# Altium schematic symbol library VEGG_Schlib.SchLib: 99 symbols
Pins are listed as number, name and electrical type; pins without a type are passive.

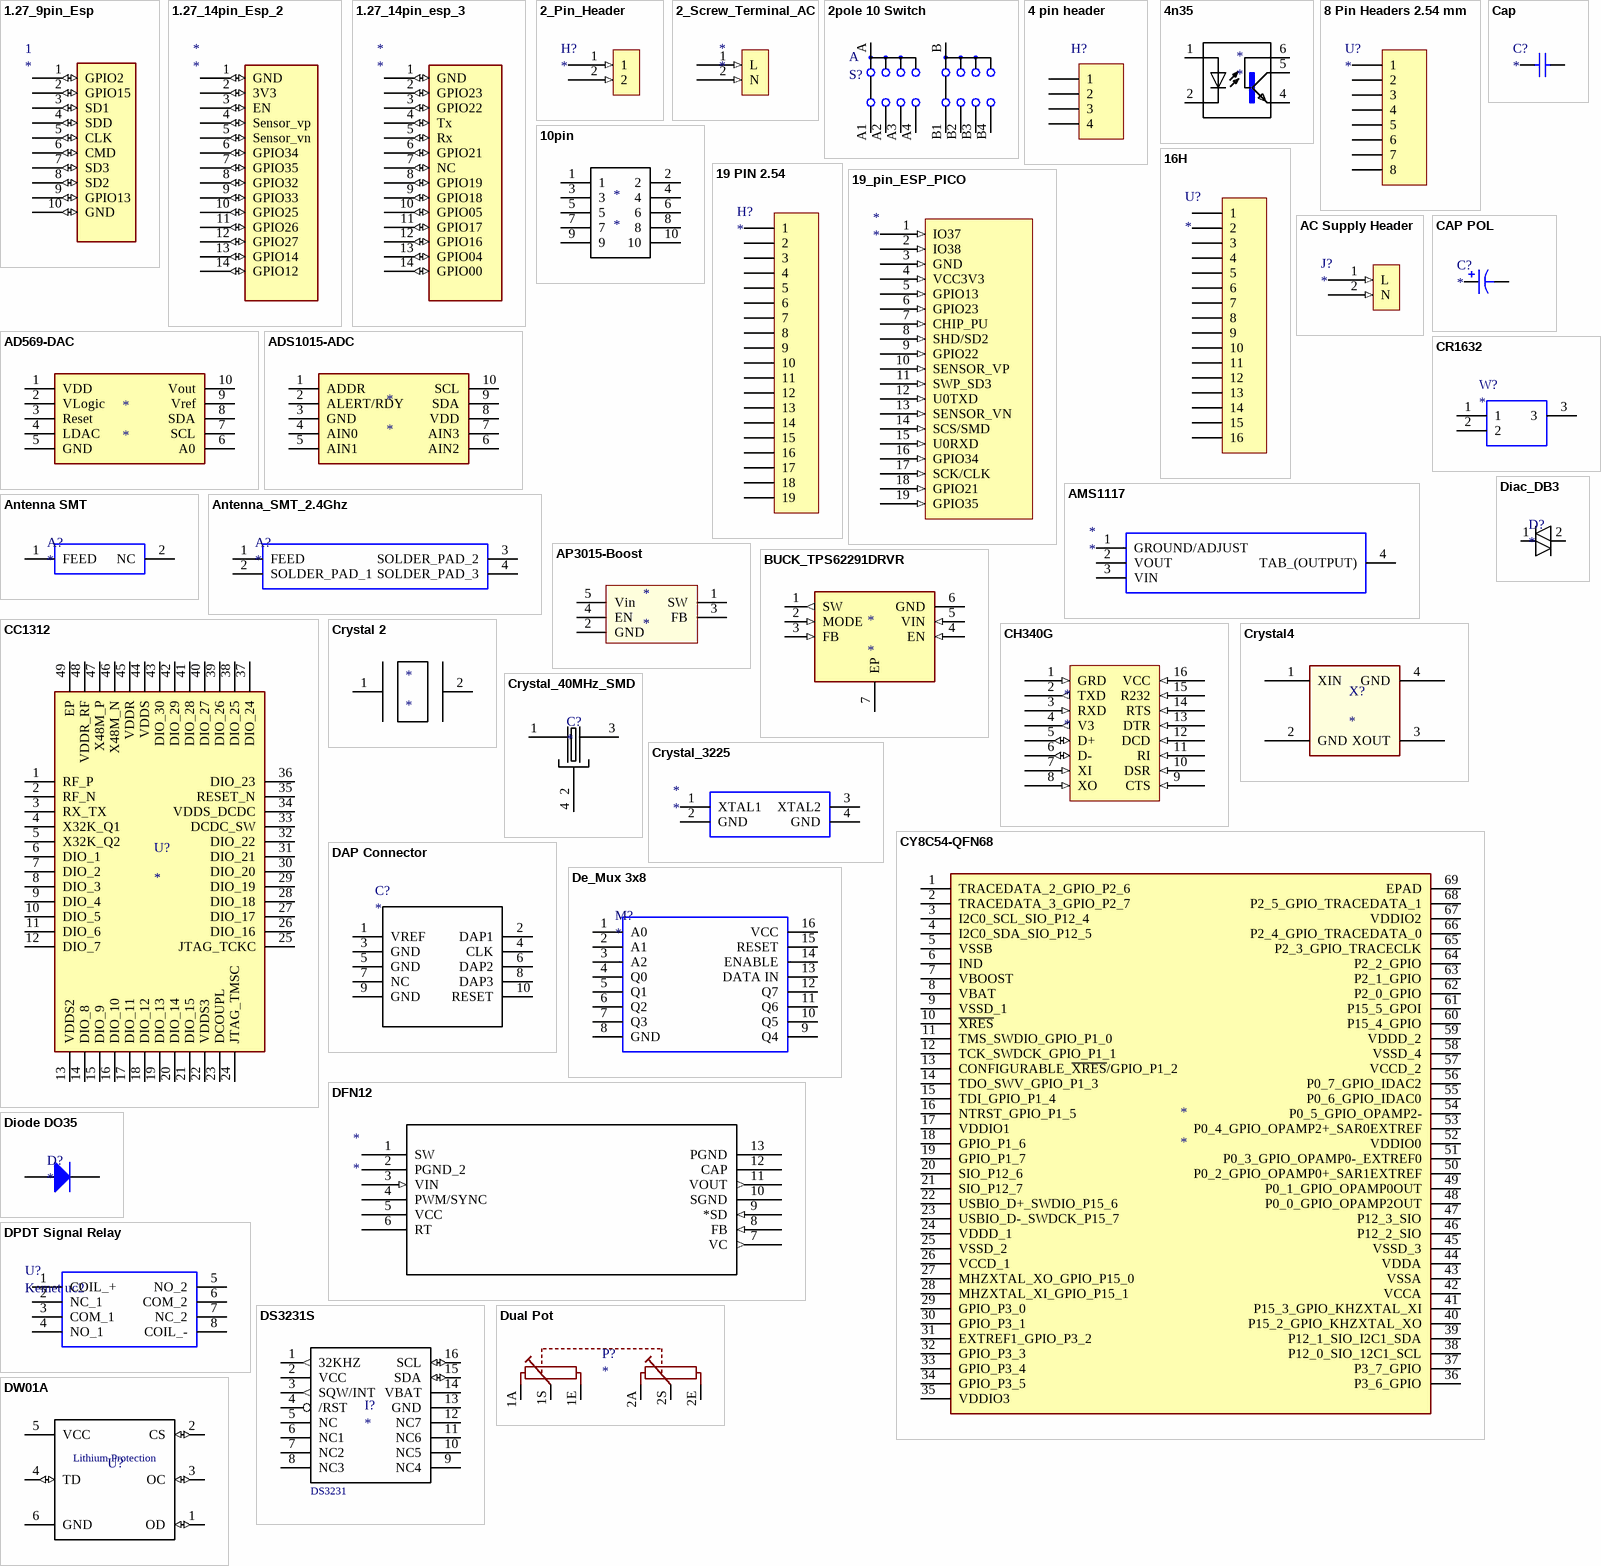
[diagram p0: symbols 1.27_9pin_Esp to DW01A]

## 1.27_9pin_Esp
designator 1
footprint 1.27_Esp32_1 (10 pin 1.27mm Pitch esp32_1)
pins: 1 GPIO2 (io), 2 GPIO15 (io), 3 SD1 (io), 4 SDD (io), 5 CLK (io), 6 CMD (io), 7 SD3 (io), 8 SD2 (io), 9 GPIO13 (io), 10 GND (io)

## 1.27_14pin_Esp_2
designator *
footprint 1.27_ESP_2 (1.27mm pack, front left 14 pin connector)
pins: 1 GND (io), 2 3V3 (io), 3 EN (io), 4 Sensor_vp (io), 5 Sensor_vn (io), 6 GPIO34 (io), 7 GPIO35 (io), 8 GPIO32 (io), 9 GPIO33 (io), 10 GPIO25 (io), 11 GPIO26 (io), 12 GPIO27 (io), 13 GPIO14 (io), 14 GPIO12 (io)

## 1.27_14pin_esp_3
designator *
footprint 1.27_esp_3 (front_right esp soc 1.27 pack headers)
pins: 1 GND (io), 2 GPIO23 (io), 3 GPIO22 (io), 4 Tx (io), 5 Rx (io), 6 GPIO21 (io), 7 NC (io), 8 GPIO19 (io), 9 GPIO18 (io), 10 GPIO05 (io), 11 GPIO17 (io), 12 GPIO16 (io), 13 GPIO04 (io), 14 GPIO00 (io)

## 2_Pin_Header
designator H?
footprint 2 pin Header 2.54mm
pins: 1 (in), 2 (in)

## 2_Screw_Terminal_AC
designator *
footprint 2_Screw_Terminal_AC_3d
pins: 1 L (in), 2 N (in)

## 2pole 10 Switch
designator A, comment S?
footprint 2pole 10 Switch
pins: A, A1, A2, A3, A4, B, B1, B2, B3, B4

## 4 pin header
designator H?
footprint 4 Pin Headers (2.54)
pins: 1, 2, 3, 4

## 4n35
designator *
ComponentLink1Description: Mouser; ComponentLink1URL: https://www.mouser.in/ProductDetail/Vishay-Semiconductors/4N35-X009T?qs=xCMk%252bIHWTZOSUnc03lOKwg%3D%3D; ComponentLink2Description: Digikey; ComponentLink2URL: https://www.digikey.in/product-detail/en/vishay-semiconductor-opto-division/4N35-X009T/4N35-X009TCT-ND/4895854
footprint 4N35_3D (4n35 including 3d model)
footprint 4n35_SMD_X009T
pins: 1 A, 2 C, 4 EMI, 5 COL, 6 BAS

## 8 Pin Headers 2.54 mm
designator U?
footprint 8 Pin Header (2.54mm Pitch)
pins: 1, 2, 3, 4, 5, 6, 7, 8

## 10pin
designator *
pins: 1, 2, 3, 4, 5, 6, 7, 8, 9, 10

## 16H
designator U?
footprint H16_2.54
pins: 1, 2, 3, 4, 5, 6, 7, 8, 9, 10, 11, 12, 13, 14, 15, 16

## 19 PIN 2.54
designator H?
footprint 19 Pin 2.54
pins: 1, 2, 3, 4, 5, 6, 7, 8, 9, 10, 11, 12, 13, 14, 15, 16, 17, 18, 19

## 19_pin_ESP_PICO
designator *
footprint 19_pin_EspPICO
pins: 1 IO37 (in), 2 IO38 (in), 3 GND (in), 4 VCC3V3 (in), 5 GPIO13 (in), 6 GPIO23 (in), 7 CHIP_PU (in), 8 SHD/SD2 (in), 9 GPIO22 (in), 10 SENSOR_VP (in), 11 SWP_SD3 (in), 12 U0TXD (in), 13 SENSOR_VN (in), 14 SCS/SMD (in), 15 U0RXD (in), 16 GPIO34 (in), 17 SCK/CLK (in), 18 GPIO21 (in), 19 GPIO35 (in)

## AC Supply Header
designator J?
footprint 2_Screw_Terminal_AC_3d
pins: 1 L (in), 2 N (in)

## AD569-DAC
designator *
pins: 1 VDD (power), 2 VLogic, 3 Reset, 4 LDAC, 5 GND (power), 6 A0, 7 SCL, 8 SDA, 9 Vref, 10 Vout

## ADS1015-ADC
designator *
pins: 1 ADDR, 2 ALERT/RDY, 3 GND, 4 AIN0, 5 AIN1, 6 AIN2, 7 AIN3, 8 VDD, 9 SDA, 10 SCL

## AMS1117
designator *
footprint AMS1117 (SOT223)
pins: 1 GROUND/ADJUST, 2 VOUT, 3 VIN, 4 TAB_(OUTPUT)

## Antenna SMT
designator A?
footprint Antenna ESP YAGEO (ANT3216LL00R2400A)
pins: 1 FEED, 2 NC

## Antenna_SMT_2.4Ghz
designator A?
footprint Antenna_2.4Ghz
pins: 1 FEED, 2 SOLDER_PAD_1, 3 SOLDER_PAD_2, 4 SOLDER_PAD_3

## AP3015-Boost
designator *
pins: 1 SW, 2 GND, 3 FB (power), 4 EN (power), 5 Vin (power)

## BUCK_TPS62291DRVR
designator *
pins: 1 SW (out), 2 MODE (in), 3 FB (in), 4 EN (in), 5 VIN (in), 6 GND (power), 7 EP (power)

## Cap
designator C?
footprint Capcitor_pack_1_3d
footprint CAP_SEMI (0402_PACK)
pins: 1, 2

## CAP POL
designator C?
footprint C0805 (pol cap)
pins: 1, 2

## CC1312
designator U?
footprint QFN50
pins: 1 RF_P, 2 RF_N, 3 RX_TX, 4 X32K_Q1, 5 X32K_Q2, 6 DIO_1, 7 DIO_2, 8 DIO_3, 9 DIO_4, 10 DIO_5, 11 DIO_6, 12 DIO_7, 13 VDDS2, 14 DIO_8, 15 DIO_9, 16 DIO_10, 17 DIO_11, 18 DIO_12, 19 DIO_13, 20 DIO_14, 21 DIO_15, 22 VDDS3, 23 DCOUPL, 24 JTAG_TMSC, 25 JTAG_TCKC, 26 DIO_16, 27 DIO_17, 28 DIO_18, 29 DIO_19, 30 DIO_20, 31 DIO_21, 32 DIO_22, 33 DCDC_SW, 34 VDDS_DCDC, 35 RESET_N, 36 DIO_23, 37 DIO_24, 38 DIO_25, 39 DIO_26, 40 DIO_27, 41 DIO_28, 42 DIO_29, 43 DIO_30, 44 VDDS, 45 VDDR, 46 X48M_N, 47 X48M_P, 48 VDDR_RF, 49 EP

## CH340G
designator *
pins: 1 GRD (in), 2 TXD (out), 3 RXD (in), 4 V3 (out), 5 D+ (io), 6 D- (io), 7 XI (in), 8 XO (in), 9 CTS (in), 10 DSR (in), 11 RI (in), 12 DCD (in), 13 DTR (in), 14 RTS (in), 15 R232 (in), 16 VCC (in)

## CR1632
designator W?
footprint CR1632 (3012 keystone)
pins: 1, 2, 3

## Crystal4
designator X?
footprint Crystal_3225 (3225 pack)
pins: 1 XIN, 2 GND (power), 3 XOUT, 4 GND (power)

## Crystal 2
designator *
pins: 1, 2

## Crystal_40MHz_SMD
designator C?
ComponentLink1Description: AMB3B_40MHz; ComponentLink1URL: https://www.digikey.in/product-detail/en/abracon-llc/ABM3B-40.000MHZ-B2-T/535-9132-1-ND/675649
footprint Crystal_40MHz_SMD
pins: 1, 2 GND, 3, 4

## Crystal_3225
designator *
footprint Crystal_3225 (3225 pack)
pins: 1 XTAL1, 2 GND, 3 XTAL2, 4 GND

## CY8C54-QFN68
designator *
pins: 1 TRACEDATA_2_GPIO_P2_6, 2 TRACEDATA_3_GPIO_P2_7, 3 I2C0_SCL_SIO_P12_4, 4 I2C0_SDA_SIO_P12_5, 5 VSSB, 6 IND, 7 VBOOST, 8 VBAT, 9 VSSD_1, 10 ~{XRES}, 11 TMS_SWDIO_GPIO_P1_0, 12 TCK_SWDCK_GPIO_P1_1, 13 CONFIGURABLE_~{XRES}/GPIO_P1_2, 14 TDO_SWV_GPIO_P1_3, 15 TDI_GPIO_P1_4, 16 NTRST_GPIO_P1_5, 17 VDDIO1, 18 GPIO_P1_6, 19 GPIO_P1_7, 20 SIO_P12_6, 21 SIO_P12_7, 22 USBIO_D+_SWDIO_P15_6, 23 USBIO_D-_SWDCK_P15_7, 24 VDDD_1, 25 VSSD_2, 26 VCCD_1, 27 MHZXTAL_XO_GPIO_P15_0, 28 MHZXTAL_XI_GPIO_P15_1, 29 GPIO_P3_0, 30 GPIO_P3_1, 31 EXTREF1_GPIO_P3_2, 32 GPIO_P3_3, 33 GPIO_P3_4, 34 GPIO_P3_5, 35 VDDIO3, 36 P3_6_GPIO, 37 P3_7_GPIO, 38 P12_0_SIO_12C1_SCL, 39 P12_1_SIO_I2C1_SDA, 40 P15_2_GPIO_KHZXTAL_XO, 41 P15_3_GPIO_KHZXTAL_XI, 42 VCCA, 43 VSSA, 44 VDDA, 45 VSSD_3, 46 P12_2_SIO, 47 P12_3_SIO, 48 P0_0_GPIO_OPAMP2OUT, 49 P0_1_GPIO_OPAMP0OUT, 50 P0_2_GPIO_OPAMP0+_SAR1EXTREF, 51 P0_3_GPIO_OPAMP0-_EXTREF0, 52 VDDIO0, 53 P0_4_GPIO_OPAMP2+_SAR0EXTREF, 54 P0_5_GPIO_OPAMP2-, 55 P0_6_GPIO_IDAC0, 56 P0_7_GPIO_IDAC2, 57 VCCD_2, 58 VSSD_4, 59 VDDD_2, 60 P15_4_GPIO, 61 P15_5_GPOI, 62 P2_0_GPIO, 63 P2_1_GPIO, 64 P2_2_GPIO, 65 P2_3_GPIO_TRACECLK, 66 P2_4_GPIO_TRACEDATA_0, 67 VDDIO2, 68 P2_5_GPIO_TRACEDATA_1, 69 EPAD

## DAP Connector
designator C?
footprint DAP Connector (XMC1100 programmer connector 10 pin)
pins: 1 VREF, 2 DAP1, 3 GND, 4 CLK, 5 GND, 6 DAP2, 7 NC, 8 DAP3, 9 GND, 10 RESET

## De_Mux 3x8
designator M?
footprint TSSOP16
pins: 1 A0, 2 A1, 3 A2, 4 Q0, 5 Q1, 6 Q2, 7 Q3, 8 GND, 9 Q4, 10 Q5, 11 Q6, 12 Q7, 13 DATA IN, 14 ENABLE, 15 RESET, 16 VCC

## DFN12
designator *
footprint LTC3121
pins: 1 SW, 2 PGND_2 (power), 3 VIN (in), 4 PWM/SYNC, 5 VCC (power), 6 RT, 7 VC (out), 8 FB (in), 9 *SD (in), 10 SGND (power), 11 VOUT (out), 12 CAP, 13 PGND (power)

## Diac_DB3
designator D?
footprint Diac_DB3
pins: 1, 2

## Diode DO35
designator D?
footprint 1N914 Diode DO35_3D (1n914 diode with 3d pac)
pins: 1 A, 2 K

## DPDT Signal Relay
designator U?, comment Kemet uc2
ComponentLink1Description: Mouser; ComponentLink1URL: https://www.mouser.in/ProductDetail/KEMET/UD2-5NU?qs=c5n%252bvICFHObEWRNLE8QQOA%3D%3D
footprint DPDT-Relay (Signal relay kemet uc 2)
pins: 1 COIL_+, 2 NC_1, 3 COM_1, 4 NO_1, 5 NO_2, 6 COM_2, 7 NC_2, 8 COIL_-

## DS3231S
designator I?
footprint SOIC-16 (Ds3231 RTC)
pins: 1 32KHZ (out), 2 VCC (power), 3 SQW/INT (out), 4 /RST, 5 NC, 6 NC1, 7 NC2, 8 NC3, 9 NC4, 10 NC5, 11 NC6, 12 NC7, 13 GND (power), 14 VBAT (power), 15 SDA (io), 16 SCL (io)
text: DS3231

## Dual Pot
designator P?
footprint Dual Pot (dual gang pot)
pins: 1A, 1E, 1S, 2A, 2E, 2S

## DW01A
designator U?  (value not drawn)
footprint SOT-23-6
pins: 1 OD (io), 2 CS (io), 3 OC (io), 4 TD (io), 5 VCC (power), 6 GND (power)
text: Lithium Protection

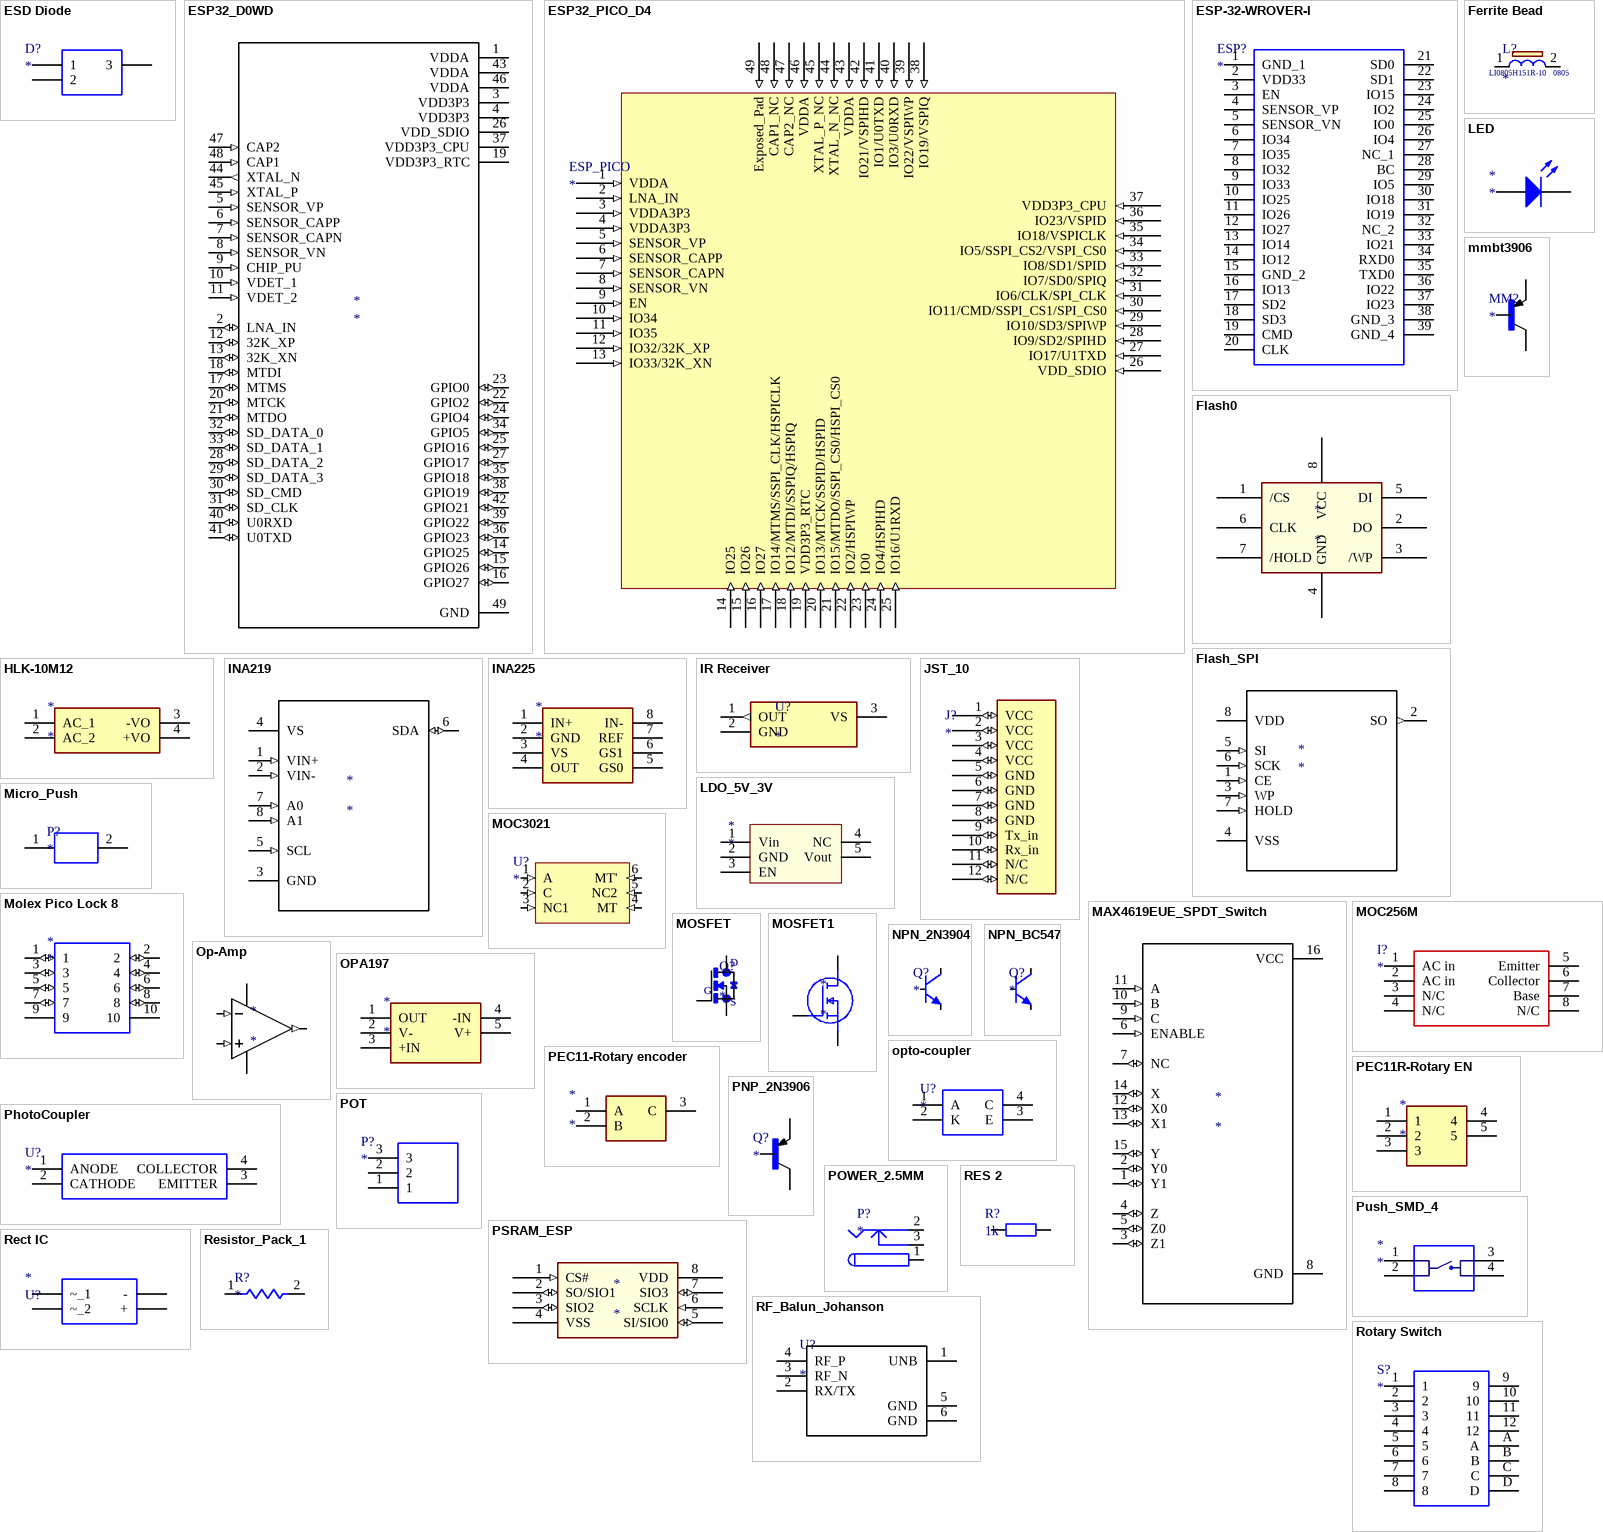
[diagram p1: symbols ESD Diode to Rotary Switch]

## ESD Diode
designator D?
footprint TSLP-3 (TSLP-3 ESD)
pins: 1, 2, 3

## ESP32_D0WD
designator *
ComponentLink1Description: ESP32-D0WD; ComponentLink1URL: https://www.digikey.in/product-detail/en/espressif-systems/ESP32-D0WD/1904-1003-1-ND/8028410
footprint ESP32_D0WD (Esp32 dowd SoC)
pins: 1 VDDA (power), 2 LNA_IN (io), 3 VDD3P3 (power), 4 VDD3P3 (power), 5 SENSOR_VP (in), 6 SENSOR_CAPP (in), 7 SENSOR_CAPN (in), 8 SENSOR_VN (in), 9 CHIP_PU (in), 10 VDET_1 (in), 11 VDET_2 (in), 12 32K_XP (io), 13 32K_XN (io), 14 GPIO25 (io), 15 GPIO26 (io), 16 GPIO27 (io), 17 MTMS (io), 18 MTDI (io), 19 VDD3P3_RTC (power), 20 MTCK (io), 21 MTDO (io), 22 GPIO2 (io), 23 GPIO0 (io), 24 GPIO4 (io), 25 GPIO16 (io), 26 VDD_SDIO (power), 27 GPIO17 (io), 28 SD_DATA_2 (io), 29 SD_DATA_3 (io), 30 SD_CMD (io), 31 SD_CLK (io), 32 SD_DATA_0 (io), 33 SD_DATA_1 (io), 34 GPIO5 (io), 35 GPIO18 (io), 36 GPIO23 (io), 37 VDD3P3_CPU (power), 38 GPIO19 (io), 39 GPIO22 (io), 40 U0RXD (io), 41 U0TXD (io), 42 GPIO21 (io), 43 VDDA (power), 44 XTAL_N (out), 45 XTAL_P (in), 46 VDDA (power), 47 CAP2 (in), 48 CAP1 (in), 49 GND (power)

## ESP32_PICO_D4
designator ESP_PICO
footprint ESP32_PICO_D4
pins: 1 VDDA (in), 2 LNA_IN (in), 3 VDDA3P3 (in), 4 VDDA3P3 (in), 5 SENSOR_VP (in), 6 SENSOR_CAPP (in), 7 SENSOR_CAPN (in), 8 SENSOR_VN (in), 9 EN (in), 10 IO34 (in), 11 IO35 (in), 12 IO32/32K_XP (in), 13 IO33/32K_XN (in), 14 IO25 (in), 15 IO26 (in), 16 IO27 (in), 17 IO14/MTMS/SSPI_CLK/HSPICLK (in), 18 IO12/MTDI/SSPIQ/HSPIQ (in), 19 VDD3P3_RTC (in), 20 IO13/MTCK/SSPID/HSPID (in), 21 IO15/MTDO/SSPI_CS0/HSPI_CS0 (in), 22 IO2/HSPIWP (in), 23 IO0 (in), 24 IO4/HSPIHD (in), 25 IO16/U1RXD (in), 26 VDD_SDIO (in), 27 IO17/U1TXD (in), 28 IO9/SD2/SPIHD (in), 29 IO10/SD3/SPIWP (in), 30 IO11/CMD/SSPI_CS1/SPI_CS0 (in), 31 IO6/CLK/SPI_CLK (in), 32 IO7/SD0/SPIQ (in), 33 IO8/SD1/SPID (in), 34 IO5/SSPI_CS2/VSPI_CS0 (in), 35 IO18/VSPICLK (in), 36 IO23/VSPID (in), 37 VDD3P3_CPU (in), 38 IO19/VSPIQ (in), 39 IO22/VSPIWP (in), 40 IO3/U0RXD (in), 41 IO1/U0TXD (in), 42 IO21/VSPIHD (in), 43 VDDA (in), 44 XTAL_N_NC (in), 45 XTAL_P_NC (in), 46 VDDA (in), 47 CAP2_NC (in), 48 CAP1_NC (in), 49 Exposed_Pad (in)

## ESP-32-WROVER-I
designator ESP?
footprint ESP32-WROVER-I
pins: 1 GND_1, 2 VDD33, 3 EN, 4 SENSOR_VP, 5 SENSOR_VN, 6 IO34, 7 IO35, 8 IO32, 9 IO33, 10 IO25, 11 IO26, 12 IO27, 13 IO14, 14 IO12, 15 GND_2, 16 IO13, 17 SD2, 18 SD3, 19 CMD, 20 CLK, 21 SD0, 22 SD1, 23 IO15, 24 IO2, 25 IO0, 26 IO4, 27 NC_1, 28 BC, 29 IO5, 30 IO18, 31 IO19, 32 NC_2, 33 IO21, 34 RXD0, 35 TXD0, 36 IO22, 37 IO23, 38 GND_3, 39 GND_4

## Ferrite Bead
designator L?  Manufacturer Part Number: LI0805H151R-10  Case/Package: 0805
Ferrite Beads 150ohms 100MHz .8A Monolithic 0805 SMD; Manufacturer: Laird; Impedance: 150R; Max Current Rating: 800mA; Number of Lines: 1; DC Resistance (DCR): 150mR; Supplier 1: Mouser; Stock 1: 0; Mount: Surface Mount; Weight: 0.00392oz; Case Code (Metric): 2012; Case Code (Imperial): 0805; Core Material: Ferrite; Material: Ferrite; Contact Plating: Tin,Matte; Min Operating Temperature: -40°C; Max Operating Temperature: 125°C; Package Quantity: 1; Packaging: Tape and Reel; Max DC Current: 800mA; Termination: SMD/SMT; Test Frequency: 100MHz; Frequency: 100MHz; Length: 2mm; Height: 1.1mm; Width: 0.049inch; Depth: 1.45mm; REACH SVHC: Unknown; Lead Free: Lead Free; ComponentLink1URL: http://www.farnell.com/datasheets/1685938.pdf?src-supplier=Element14; ComponentLink1Description: http://www.farnell.com/datasheets/1685938.pdf?src-supplier=Element14; ComponentLink2URL: https://assets.lairdtech.com/home/brandworld/files/LI0805H151R-10.pdf?src-supplier=Digi-Key; ComponentLink2Description: https://assets.lairdtech.com/home/brandworld/files/LI0805H151R-10.pdf?src-supplier=Digi-Key; ComponentLink3URL: https://www.alliedelec.com/m/d/63159f83fbe70e1160794b0cc8ac128f.pdf?src-supplier=Allied+Electronics; ComponentLink3Description: https://www.alliedelec.com/m/d/63159f83fbe70e1160794b0cc8ac128f.pdf?src-supplier=Allied+Electronics; Supplier Part Number 1: 875-LI0805H151R-10
footprint C0805 (pol cap)
pins: 1, 2

## Flash0
designator *
pins: 1 /CS, 2 DO, 3 /WP, 4 GND, 5 DI, 6 CLK, 7 /HOLD, 8 VCC

## Flash_SPI
designator *
footprint Flash_Spi (Flash memory 4mb Sop8)
pins: 1 CE (in), 2 SO (out), 3 WP (in), 4 VSS, 5 SI (in), 6 SCK (in), 7 HOLD (in), 8 VDD (power)

## HLK-10M12
designator *
pins: 1 AC_1, 2 AC_2, 3 -VO, 4 +VO

## INA219
designator *
pins: 1 VIN+ (in), 2 VIN- (in), 3 GND, 4 VS (power), 5 SCL (in), 6 SDA (io), 7 A0 (in), 8 A1 (in)

## INA225
designator *
pins: 1 IN+, 2 GND, 3 VS, 4 OUT, 5 GS0, 6 GS1, 7 REF, 8 IN-

## IR Receiver
designator U?
footprint IR Receiver
pins: 1 OUT (out), 2 GND, 3 VS

## JST_10
designator J?
ComponentLink1Description: Ali-express; ComponentLink1URL: https://www.aliexpress.com/item/10-Set-1-25mm-Pitch-Connector-Mini-JST-Horizontal-Straight-Pin-2-3-4-5-6/32789967397.html?spm=2114.search0104.3.2.69884528hdVXBQ&ws_ab_test=searchweb0_0,searchweb201602_5_10065_10068_10890_5730315_319_10546_317_10548_10696_453_10084_454_10083_10618_5729215_10307_538_537_536_10059_10884_10887_100031_321_322_10103,searchweb201603_1,ppcSwitch_0&algo_expid=2a5c9dea-b20b-469d-a79c-c0e9d02b1ee7-0&algo_pvid=2a5c9dea-b20b-469d-a79c-c0e9d02b1ee7
footprint JST_10 (smd)
pins: 1 VCC (io), 2 VCC (io), 3 VCC (io), 4 VCC (io), 5 GND (io), 6 GND (io), 7 GND (io), 8 GND (io), 9 Tx_in (io), 10 Rx_in (io), 11 N/C (io), 12 N/C (io)

## LDO_5V_3V
designator *
footprint SOT25
pins: 1 Vin (power), 2 GND (power), 3 EN, 4 NC, 5 Vout (power)

## LED
designator *
pins: 1 A, 2 K

## MAX4619EUE_SPDT_Switch
designator *
pins: 1 Y1 (io), 2 Y0 (io), 3 Z1 (io), 4 Z (io), 5 Z0 (io), 6 ENABLE (in), 7 NC (io), 8 GND (power), 9 C (in), 10 B (in), 11 A (in), 12 X0 (io), 13 X1 (io), 14 X (io), 15 Y (io), 16 VCC (power)

## Micro_Push
designator P?
footprint Micro_Push (esp32 reset button)
pins: 1, 2

## mmbt3906
designator MM?
pins: 1, 2, 3

## MOC256M
designator I?
ComponentLink1Description: Mouser; ComponentLink1URL: https://www.mouser.in/ProductDetail/ON-Semiconductor-Fairchild/MOC256M?qs=3%252bZ%252bUPfKNOrz89TZJWbg9g%3D%3D
footprint MOC256M (AC Opto Isolator)
pins: 1 AC in, 2 AC in, 3 N/C, 4 N/C, 5 Emitter, 6 Collector, 7 Base, 8 N/C

## MOC3021
designator U?
ComponentLink1Description: Digikey; ComponentLink1URL: https://www.digikey.in/product-detail/en/lite-on-inc/MOC3021S-TA1/160-2045-1-ND/3711406; ComponentLink2Description: Mouser; ComponentLink2URL: https://www.mouser.in/ProductDetail/Lite-On/MOC3021S-TA1?qs=gnaPJ2cis73pvd2n5ypbcg%3D%3D
footprint MOC3021
footprint MOC3021M (Smd Package Lite on)
pins: 1 A (in), 2 C (in), 3 NC1 (in), 4 MT (in), 5 NC2 (in), 6 MT' (in)

## Molex Pico Lock 8
designator *
pins: 1 (io), 2 (io), 3 (io), 4 (io), 5 (io), 6 (io), 7 (io), 8 (io), 9, 10

## MOSFET
designator Q?
footprint MOSFET-SOT23-3
pins: 1 G, 2 S, 3 D

## MOSFET1
designator *
pins: D 2, G 1, S 3

## NPN_2N3904
designator Q?
footprint TO-92 (Tapped)
pins: 1 E, 2 B, 3 C

## NPN_BC547
designator Q?
footprint TO-92 (Tapped)
pins: B, C, E

## Op-Amp
designator *
pins: 1 OUT (out), 2 -IN (in), 3 +IN (in), 4 V- (power), 8 V+ (power)

## OPA197
designator *
pins: 1 OUT, 2 V-, 3 +IN, 4 -IN, 5 V+

## opto-coupler
designator U?
footprint SOP_4 (opto-coupler)
pins: 1 A, 2 K, 3 E, 4 C

## PEC11-Rotary encoder
designator *
pins: 1 A, 2 B, 3 C

## PEC11R-Rotary EN
designator *
pins: 1, 2, 3, 4, 5

## PhotoCoupler
designator U?
footprint Photocoupler (PS2501)
pins: 1 ANODE, 2 CATHODE, 3 EMITTER, 4 COLLECTOR

## PNP_2N3906
designator Q?
footprint SOT23 (PNP Transistor Pack)
footprint TO-92 (Tapped)
pins: 1, 2, 3

## POT
designator P?
footprint POT
pins: 1, 2, 3

## POWER_2.5MM
designator P?
DC Low Voltage Power Supply
footprint Power_2.5 (2.5 mm DC female jack)
pins: 1 (power), 1A (power), 1B (power), 2 (power), 2A (power), 2B (power), 3 (power), 3A (power), 3B (power)

## PSRAM_ESP
designator *
pins: 1 CS# (in), 2 SO/SIO1 (io), 3 SIO2 (io), 4 VSS (power), 5 SI/SIO0 (io), 6 SCLK (in), 7 SIO3 (io), 8 VDD (power)

## Push_SMD_4
designator *
footprint Push Button SMD
pins: 1, 2, 3, 4

## Rect IC
designator *, comment U?
footprint DB-S (Rectifier IC)
pins: 1 ~_1, 2 ~_2, 3 +, 4 -

## RES 2
designator R?, comment 1k
footprint Resistor_Pack_1_3D (Axial 0.3)
pins: 1, 2

## Resistor_Pack_1
designator R?
Axial 0.3
footprint Resistor_Pack_1_3D (Axial 0.3)
pins: 1, 2

## RF_Balun_Johanson
designator U?
footprint RF_Baloon_Johanson (for M-Bus Project)
pins: 1 UNB, 2 RX/TX, 3 RF_N, 4 RF_P, 5 GND (power), 6 GND (power)

## Rotary Switch
designator S?
footprint Rotary Switch (2x6 position)
pins: 1, 2, 3, 4, 5, 6, 7, 8, 9, 10, 11, 12, A, B, C, D

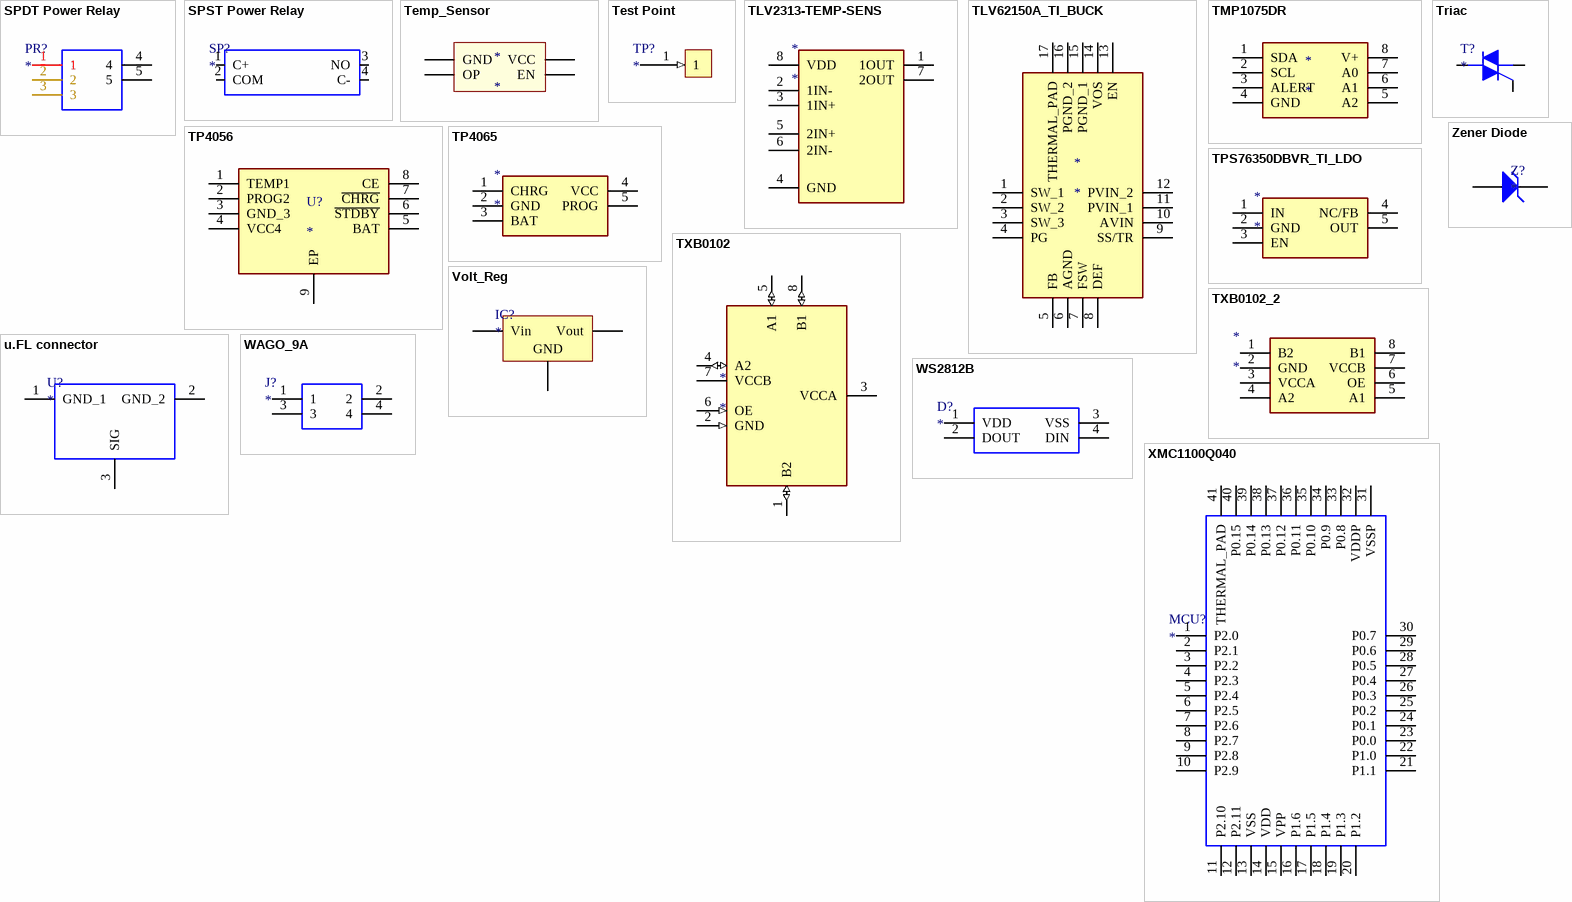
[diagram p2: symbols SPDT Power Relay to Zener Diode]

## SPDT Power Relay
designator PR?
footprint SPDT Power Relay (SPDT 15x15)
pins: 1, 2, 3, 4, 5

## SPST Power Relay
designator SP?
footprint SPST Power Relay
pins: 1 C+, 2 COM, 3 NO, 4 C-

## Temp_Sensor
designator *
footprint WLCSP-4
pins: A1 GND (power), A2 VCC, B1 OP (power), B2 EN (power)

## Test Point
designator TP?
footprint TP (Test Point)
footprint TP Header
pins: 1 (in)

## TLV2313-TEMP-SENS
designator *
pins: 1 1OUT, 2 1IN- (power), 3 1IN+ (power), 4 GND, 5 2IN+, 6 2IN-, 7 2OUT (power), 8 VDD

## TLV62150A_TI_BUCK
designator *
footprint VQFN_16_0.5
pins: 1 SW_1, 2 SW_2, 3 SW_3, 4 PG, 5 FB, 6 AGND, 7 FSW, 8 DEF, 9 SS/TR, 10 AVIN, 11 PVIN_1, 12 PVIN_2, 13 EN, 14 VOS, 15 PGND_1, 16 PGND_2, 17 THERMAL_PAD

## TMP1075DR
designator *
pins: 1 SDA, 2 SCL, 3 ALERT, 4 GND, 5 A2, 6 A1, 7 A0, 8 V+

## TP4056
designator U?
footprint SOP-8_TP4056 (BAT charging TP4056)
pins: 1 TEMP1, 2 PROG2, 3 GND_3, 4 VCC4, 5 BAT, 6 ~{STDBY}, 7 ~{CHRG}, 8 CE, 9 EP

## TP4065
designator *
pins: 1 CHRG, 2 GND, 3 BAT, 4 VCC, 5 PROG

## TPS76350DBVR_TI_LDO
designator *
pins: 1 IN, 2 GND, 3 EN, 4 NC/FB, 5 OUT

## Triac
designator T?
footprint Triac
pins: 1 M1, 2 M2, 3 G

## TXB0102
designator *
footprint VSSOP8
pins: 1 B2 (io), 2 GND (in), 3 VCCA (power), 4 A2 (io), 5 A1 (io), 6 OE (in), 7 VCCB (power), 8 B1 (io)

## TXB0102_2
designator *
pins: 1 B2, 2 GND (power), 3 VCCA (power), 4 A2, 5 A1, 6 OE, 7 VCCB (power), 8 B1

## u.FL connector
designator U?
footprint U.FL Connector (Antenna 2.4 Ghz Female connector)
pins: 1 GND_1, 2 GND_2, 3 SIG

## Volt_Reg
designator IC?
footprint Volt_Reg (7805 thorugh hole)
pins: 1 Vin, 2 GND, 3 Vout

## WAGO_9A
designator J?
ComponentLink1Description: WAGO; ComponentLink1URL: https://www.wago.com/in/pcb-terminal-blocks-and-pluggable-connectors/smd-terminal-block-with-push-buttons-in-tape-and-reel-packing/p/2060-452_998-404
footprint WAGO_9A (AC 230V mains connector)
pins: 1, 2, 3, 4

## WS2812B
designator D?
footprint WS2812B (RGB LED)
pins: 1 VDD (power), 2 DOUT, 3 VSS, 4 DIN

## XMC1100Q040
designator MCU?
footprint XMC1100_VFQN_40
pins: 1 P2.0, 2 P2.1, 3 P2.2, 4 P2.3, 5 P2.4, 6 P2.5, 7 P2.6, 8 P2.7, 9 P2.8, 10 P2.9, 11 P2.10, 12 P2.11, 13 VSS, 14 VDD, 15 VPP, 16 P1.6, 17 P1.5, 18 P1.4, 19 P1.3, 20 P1.2, 21 P1.1, 22 P1.0, 23 P0.0, 24 P0.1, 25 P0.2, 26 P0.3, 27 P0.4, 28 P0.5, 29 P0.6, 30 P0.7, 31 VSSP, 32 VDDP, 33 P0.8, 34 P0.9, 35 P0.10, 36 P0.11, 37 P0.12, 38 P0.13, 39 P0.14, 40 P0.15, 41 THERMAL_PAD

## Zener Diode
designator Z?
footprint Do-35 (6mm pitch)
footprint SOD-882 (zener diode smd)
pins: 1 A, 2 K